# EAGLE library part REG710XX (library m_vreg)
30-mA Switched-Cap DC-DC Converter with fixed Output Description The REG710 family of devices are switched capacitor voltage converters that generate regulated, low-ripple output voltage from an unregulated input voltage. A wide input supply voltage from 1.8 V to 5.5 V makes the REG710 family of devices ideal for a variety of battery sources, such as single-cell Li-Ion, or 2-cell and 3-cell nickel-based or alkaline-based chemistries. The input voltage may vary above and below the output voltage and the output remains in regulation. The device works as step-up or step-down converters without the need of an inductor, providing low EMI DC-DC conversion. The high switching frequency allows the use of small surface-mount capacitors, saving board space and reducing cost. The REG710 device is thermally protected and current limited, protecting the load and the regulator during fault conditions. Typical ground pin current (quiescent current) is 65 μA with no load, and less than 1 μA in shutdown mode. Features Wide Input Voltage Range: 1.8 V to 5.5 V Automatic Step-Up and Step-Down Operation Low Input Current Ripple Low Output Voltage Ripple Minimum Number of External Components—No Inductors 1-MHz Internal Oscillator Allows Small Capacitors Shutdown Mode Thermal and Current Limit Protection Six Fixed Output Voltages Available: 2.5 V, 2.7 V, 3 V, 3.3 V, 5 V, 5.5 V Parametrics REG710-25 REG710-27 REG710-3 REG710-33 REG710-5 REG71050 REG71055 REG71055-Q1 Vin(Min)(V) 1.8 1.8 1.8 1.8 2.7 2.7 3 3 Vin(Max)(V) 5.5 5.5 5.5 5.5 5.5 5.5 5.5 5.5 Vout(Min)(V) 2.5 2.7 3 3.3 5 5 5.5 5.5 Vout(Max)(V) 2.5 2.7 3 3.3 5 5 5.5 5.5 Iout(Max)(A) 0.03 0.03 0.03 0.03 0.03 0.06 0.06 0.06 Regulated Outputs(#) 1 1 1 1 1 1 1 1 Switching Frequency(Min)(kHz) 1000 1000 1000 1000 1000 1000 1000 1000 Switching Frequency(Max)(kHz) 1000 1000 1000 1000 1000 1000 1000 1000 Iq(Typ)(mA) 0.065 0.065 0.065 0.065 0.065 0.065 0.065 0.065 Features Enable Enable Enable Enable Enable Enable Enable Enable Operating Temperature Range(C) -40 to 85 -40 to 85 -40 to 85 -40 to 85 -40 to 85 -40 to 85 -40 to 85 -40 to 85 Rating Catalog Catalog Catalog Catalog Catalog Catalog Catalog Automotive Package Group SOT-23 | 6 SOT-23 | 6 SOT-23 | 6 SOT-23 | 6 SOT-23 | 6 SOT-23-THIN|6 WSON|6 SOT-23-THIN | 6 SOT-23-THIN | 6 Datasheet link: http://www.ti.com/lit/gpn/reg710-3 Octopart Search <https://octopart.com/search?q=REG710-*> Added 2018-08-27
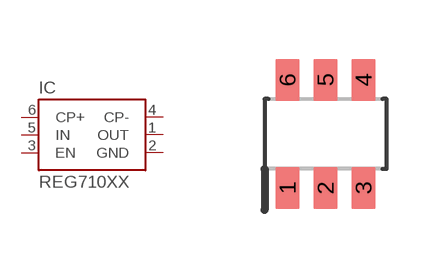
[diagram p15: symbol with the pads of R-PDSO-G6; footprint R-PDSO-G6]

Designator prefix IC

## REG710XX_DBV (MANUF: TI; PARTNUM: REG710NA-*/*; VALUE: REG710NA-X)  [R-PDSO-G6]
1  OUT  pas
2  GND  pas
3  EN  pas
4  CP-  pas
5  IN  pas
6  CP+  pas

## Footprint R-PDSO-G6 (pad centres in mm)
Plastic Small Outline Package SOT-23 (6) Based on TI drawings 4073253-5/N 12/14, 4209593-4/C 08/11 Note: The datsheet calls for a 0.07" soldermask clearance. Thedatasheet specifies paste stencil openings with 0.025" clearance to edge of copper pad. Polygons were used to preserve edge rounding per IEC standards.
smd 0.6 x 1.05: 1 -0.95,-1.35; 2 0,-1.35; 3 0.95,-1.35; 4 0.95,1.35; 5 0,1.35; 6 -0.95,1.35